# Altium footprint library Colin.PcbLib: 3 footprints
Each footprint in its own frame and in the unit in brackets; x right, y up, seen from the top. Pads: shape width x height; smd on the part's side, far side on the other; paste and mask are expansions set on the pad; w line width, h text height; cw(c..) or ccw(c..) is an arc to the next point about the centre after c.
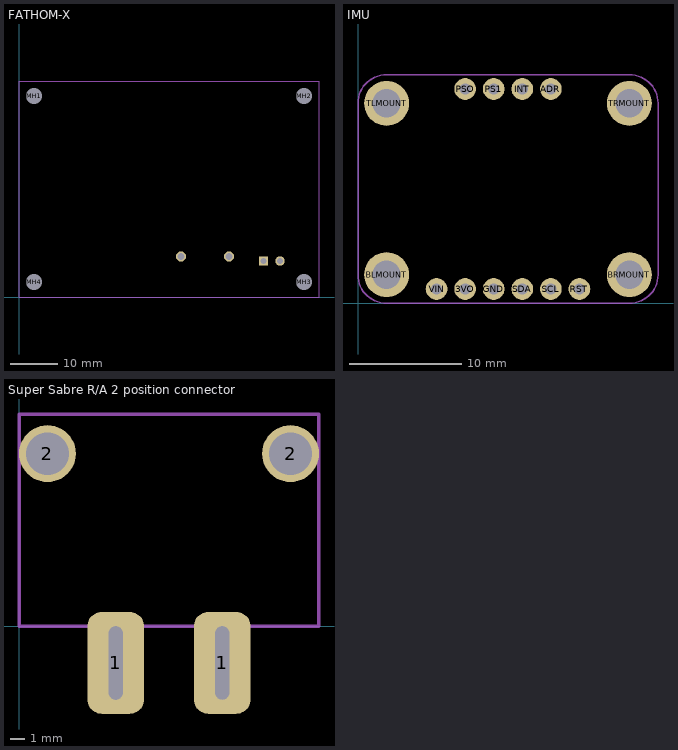
[diagram p0: the footprints below, top view; thin cyan lines are the x and y axes]

## FATHOM-X [mil]
pads (8):
  rect 78x78 / inner round 72.06 / far side rect 78x78 hole 47.24: GND(2037.5,300)
  round 86 hole 55: HV_SIGNAL(1750,337.5) PL_L(1350,337.5)
  round 130 hole 130 unplated: MH1(125,1675) MH2(2375,1675) MH3(2375,125) MH4(125,125)
  round 78 hole 47.24: VIN(2175.3,300)
Mechanical 7:
  lines w5: 0,0 0,1800 2500,1800 2500,0 0,0
3D body "FATHOMX-ASM-FATHOM-X-R1.STEP": height 661.42, standoff 0, extent 0,0 2542.93,1834.64

## IMU [mm]
pads (14):
  round 1.93 hole 1: 3VO(9.525,1.27) ADR(17.145,19.05) GND(12.065,1.27) INT(14.605,19.05) PS1(12.065,19.05) PSO(9.525,19.05) RST(19.685,1.27) SCL(17.145,1.27) SDA(14.605,1.27) VIN(6.985,1.27)
  round 4 hole 2.5: BLMOUNT(2.54,2.54) BRMOUNT(24.13,2.54) TLMOUNT(2.54,17.78) TRMOUNT(24.13,17.78)
Mechanical 7:
  lines w0.127: 0,2.54 ccw(c2.54,2.54) 2.54,0 24.13,0 ccw(c24.13,2.54) 26.67,2.54 26.67,17.78 ccw(c24.13,17.78) 24.13,20.32 2.54,20.32 ccw(c2.54,17.78) 0,17.78 0,2.54
3D body "Adafruit_BNO055.STEP": height 4.15, standoff -0.05, extent 0,0 26.67,20.32

## Super Sabre R/A 2 position connector [mm]
pads (4):
  rrect50% 4x7.15 / inner round 4 / far side round 4 hole 5.15 slot 1 at 0 deg: 1(6.79,-2.575) 1(14.28,-2.575)
  round 4 hole 3: 2(1.99,12.14) 2(19.08,12.14)
Mechanical 7:
  lines w0.254: 0,0 21.07,0 21.07,14.91 0,14.91 0,0
3D body "1720430202.stp": height 13.08, standoff -4.12, extent -0.042,-4.688 21.04,15.188